# Altium schematic symbol library OBDII-components.SchLib: 55 symbols
Pins are listed as number, name and electrical type; pins without a type are passive.

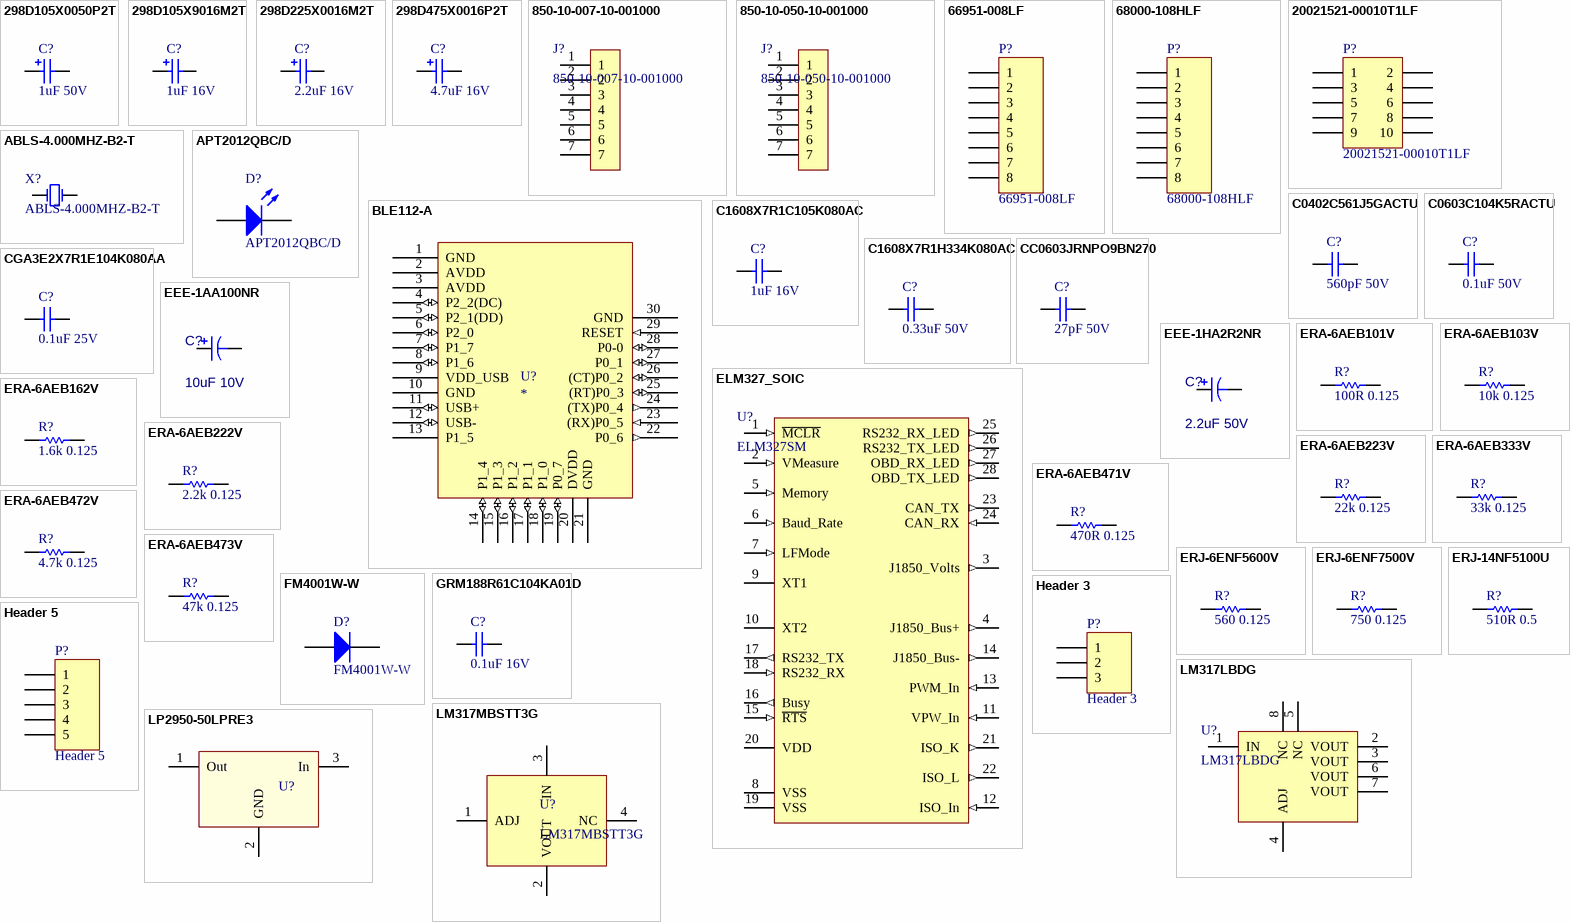
[diagram p0: symbols 298D105X0050P2T to LP2950-50LPRE3]

## 298D105X0050P2T
designator C?, comment 1uF 50V
Surface-Mount Electrolitic Tantalum Capacitor, 1uF, 20% Tolerance, 1005 Size, 50V; Type: Polarity; PackageReference: 1005; Publisher: Altium Limited; PackageDescription: Chip Capacitor; Site: http://www.vishay.com/doc?40065; Value: 1uF 50V
simulation model CAP (Semiconductor Capacitor)
signal-integrity model Cap Semi
footprint C1005 (Chip Capacitor, Body 1.6x0.8mm, IPC High Density)
pins: 1, 2

## 298D105X9016M2T
designator C?, comment 1uF 16V
Surface-Mount Electrolitic Tantalum Capacitor, 1uF, 10% Tolerance, 0603 Size, 16V; Type: Polarity; PackageReference: 0603; Publisher: Altium Limited; PackageDescription: Chip Capacitor; Site: http://www.vishay.com/doc?40065; Value: 1uF 16V
simulation model CAP (Semiconductor Capacitor)
signal-integrity model Cap Semi
footprint C0603 (Chip Capacitor, Body 1.6x0.8mm, IPC High Density)
pins: 1, 2

## 298D225X0016M2T
designator C?, comment 2.2uF 16V
Surface-Mount Electrolitic Tantalum Capacitor, 2.2uF, 10% Tolerance, 0603 Size, 16V; Type: Polarity; PackageReference: 0603; Publisher: Altium Limited; PackageDescription: Chip Capacitor; Site: http://www.vishay.com/doc?40065; Value: 2.2uF 16V
simulation model CAP (Semiconductor Capacitor)
signal-integrity model Cap Semi
footprint C0603 (Chip Capacitor, Body 1.6x0.8mm, IPC High Density)
pins: 1, 2

## 298D475X0016P2T
designator C?, comment 4.7uF 16V
Surface-Mount Electrolitic Tantalum Capacitor, 4.7uF, 20% Tolerance, 1005 Size, 16V; Type: Polarity; PackageReference: 1005; Publisher: Altium Limited; PackageDescription: Chip Capacitor; Site: http://www.vishay.com/doc?40065; Value: 4.7uF 16V
simulation model CAP (Semiconductor Capacitor)
signal-integrity model Cap Semi
footprint C1005 (Chip Capacitor, Body 1.6x0.8mm, IPC High Density)
pins: 1, 2

## 850-10-007-10-001000
designator J?
CONN HEADER .050" 7POS PCB GOLD; Manufacturer: Mill-Max; PartNumber: 850-10-007-10-001000; Type: 850-10-007-10-001000
footprint 850-10-050-10-001000 (CONN HEADER .050" 50POS PCB GOLD)
pins: 1, 2, 3, 4, 5, 6, 7

## 850-10-050-10-001000
designator J?
CONN HEADER .050" 50POS PCB GOLD; Manufacturer: Mill-Max; PartNumber: 850-10-050-10-001000
footprint 850-10-050-10-001000 (CONN HEADER .050" 50POS PCB GOLD)
pins: 1, 2, 3, 4, 5, 6, 7

## 66951-008LF
designator P?
Connector, 8-Pin, 2.54 pitch, 1 row; LatestRevisionDate: 17-Jul-2002; LatestRevisionNote: Re-released for DXP Platform.; Publisher: Altium Limited; Type: 66951-008LF
signal-integrity model Connector
footprint HDR1X8 (Connector; Header; 8 Position)
pins: 1, 2, 3, 4, 5, 6, 7, 8

## 68000-108HLF
designator P?
Header, 8-Pin, 2.54 pitch, 1 row; LatestRevisionDate: 17-Jul-2002; LatestRevisionNote: Re-released for DXP Platform.; Publisher: Altium Limited; Type: 68000-108HLF
signal-integrity model Connector
footprint HDR1X8 (Connector; Header; 8 Position)
pins: 1, 2, 3, 4, 5, 6, 7, 8

## 20021521-00010T1LF
designator P?
Header, 5-Pin, Dual row,SMT SHOULDED; LatestRevisionDate: 17-Jul-2002; LatestRevisionNote: Re-released for DXP Platform.; Publisher: Altium Limited; Type: 20021521-00010T1LF
signal-integrity model Connector
footprint 20021521-00010T1LF (Connector)
pins: 1, 2, 3, 4, 5, 6, 7, 8, 9, 10

## ABLS-4.000MHZ-B2-T
designator X?
CRYSTAL 4.000 MHZ 18PF SMD; Manufacturer: Abracon; Value: 4MHz; PartNumber: ABLS-4.000MHZ-B2-T; Site: http://www.abracon.com/Resonators/abls.pdf
footprint HC-49/US
pins: 1 OSC1, 2 OSC2

## APT2012QBC/D
designator D?
Typical BLUE SiC LED; LatestRevisionNote: PCB Footprint replaced.; PackageReference: 0805; PackageDescription: SM LED; Body 2.0x 1.25 x 0.75mm, inc leads (LxWxH typ); Type: APT2012QBC/D
footprint LED-0805 (LED, Body 2 x 1.25 mm)
pins: 1 A, 2 K

## BLE112-A
designator U?
BLE112 Bluetooth Smart Module; Site: http://www.bluegiga.com/en-US/products/bluetooth-4.0-modules/ble112-bluetooth--smart-module/; Type: BLE112-A
footprint BLE112-A - II (BLE112 Bluetooth Smart Module)
pins: 1 GND (power), 2 AVDD (power), 3 AVDD (power), 4 P2_2(DC) (io), 5 P2_1(DD) (io), 6 P2_0 (io), 7 P1_7 (io), 8 P1_6 (io), 9 VDD_USB (power), 10 GND, 11 USB+ (io), 12 USB- (io), 13 P1_5, 14 P1_4 (io), 15 P1_3 (io), 16 P1_2 (io), 17 P1_1 (io), 18 P1_0 (io), 19 P0_7 (io), 20 DVDD (power), 21 GND (power), 22 P0_6 (out), 23 (RX)P0_5 (in), 24 (TX)P0_4 (out), 25 (RT)P0_3 (io), 26 (CT)P0_2 (io), 27 P0_1 (io), 28 P0-0 (io), 29 RESET (in), 30 GND (power)

## C0402C561J5GACTU
designator C?, comment 560pF 50V
Surface-Mount Ceramic Multilayer Capacitor, 560pF, 5% Tolerance, 0402 Size, 50V; PackageReference: 0402; Publisher: Altium Limited; PackageDescription: Chip Capacitor; Site: http://www.kemet.com/kemet/web/homepage/kechome.nsf/vapubfiles/KEM_C1003_C0G_SMD.pdf/$file/KEM_C1003_C0G_SMD.pdf; Value: 560pF 50V
footprint C1206 (Chip Capacitor, Body 3.2x1.6mm, IPC High Density)
footprint 0402 (Chip Capacitor, Body 1.0x0.5mm, IPC High Density)
footprint C2512 (Chip Capacitor, Body 2.54x1.27mm, IPC High Density)
footprint 1608[0603] (Chip Capacitor, Body 1.6x0.8mm, IPC High Density)
footprint C1210 (Chip Capacitor, Body 3.2x2.5mm, IPC High Density)
simulation model CAP (Semiconductor Capacitor)
signal-integrity model Cap Semi
pins: 1, 2

## C0603C104K5RACTU
designator C?, comment 0.1uF 50V
Surface-Mount Ceramic Multilayer Capacitor, 0.1uF, 10% Tolerance, 0603 Size, 50V; PackageReference: 1608(0603); PackageDescription: Chip Capacitor; Site: http://www.kemet.com/kemet/web/homepage/kechome.nsf/vapubfiles/KEM_C1002_X7R_SMD.pdf/$file/KEM_C1002_X7R_SMD.pdf; Value: 0.1uF 50V
footprint C1206 (Chip Capacitor, Body 3.2x1.6mm, IPC High Density)
footprint 0402 (Chip Capacitor, Body 1.0x0.5mm, IPC High Density)
footprint C2512 (Chip Capacitor, Body 2.54x1.27mm, IPC High Density)
footprint 1608[0603] (Chip Capacitor, Body 1.6x0.8mm, IPC High Density)
footprint C1210 (Chip Capacitor, Body 3.2x2.5mm, IPC High Density)
simulation model CAP (Semiconductor Capacitor)
signal-integrity model Cap Semi
pins: 1, 2

## C1608X7R1C105K080AC
designator C?, comment 1uF 16V
Surface-Mount Ceramic Multilayer Capacitor, 1uF, X7R, 10% Tolerance, 0603 Size, 16V; PackageReference: 1608(0603); PackageDescription: Chip Capacitor; Site: http://www.kemet.com/kemet/web/homepage/kechome.nsf/vapubfiles/KEM_C1002_X7R_SMD.pdf/$file/KEM_C1002_X7R_SMD.pdf; Value: 1uF 16V
footprint C1206 (Chip Capacitor, Body 3.2x1.6mm, IPC High Density)
footprint 0402 (Chip Capacitor, Body 1.0x0.5mm, IPC High Density)
footprint C2512 (Chip Capacitor, Body 2.54x1.27mm, IPC High Density)
footprint 1608[0603] (Chip Capacitor, Body 1.6x0.8mm, IPC High Density)
footprint C1210 (Chip Capacitor, Body 3.2x2.5mm, IPC High Density)
simulation model CAP (Semiconductor Capacitor)
signal-integrity model Cap Semi
pins: 1, 2

## C1608X7R1H334K080AC
designator C?, comment 0.33uF 50V
Surface-Mount Ceramic Multilayer Capacitor, 0.33uF, 10% Tolerance, 0603 Size, 50V; PackageReference: 1608(0603); PackageDescription: Chip Capacitor; Site: http://product.tdk.com/capacitor/mlcc/en/documents/C1608X7R1H334K080AC.pdf; Value: 0.33uF 50V
footprint C1206 (Chip Capacitor, Body 3.2x1.6mm, IPC High Density)
footprint 0402 (Chip Capacitor, Body 1.0x0.5mm, IPC High Density)
footprint C2512 (Chip Capacitor, Body 2.54x1.27mm, IPC High Density)
footprint 1608[0603] (Chip Capacitor, Body 1.6x0.8mm, IPC High Density)
footprint C1210 (Chip Capacitor, Body 3.2x2.5mm, IPC High Density)
simulation model CAP (Semiconductor Capacitor)
signal-integrity model Cap Semi
pins: 1, 2

## CC0603JRNPO9BN270
designator C?, comment 27pF 50V
Surface-Mount Ceramic Multilayer Capacitor, 27pF, 5% Tolerance, 0603 Size, 50V; PackageReference: 1608(0603); Publisher: Altium Limited; PackageDescription: Chip Capacitor; Site: http://www.mouser.com/ds/2/447/UPY-GP_NP0_16V-to-50V_%288%29-217813.pdf; Value: 27pF 50V
footprint C1206 (Chip Capacitor, Body 3.2x1.6mm, IPC High Density)
footprint 0402 (Chip Capacitor, Body 1.0x0.5mm, IPC High Density)
footprint C2512 (Chip Capacitor, Body 2.54x1.27mm, IPC High Density)
footprint 1608[0603] (Chip Capacitor, Body 1.6x0.8mm, IPC High Density)
footprint C1210 (Chip Capacitor, Body 3.2x2.5mm, IPC High Density)
simulation model CAP (Semiconductor Capacitor)
signal-integrity model Cap Semi
pins: 1, 2

## CGA3E2X7R1E104K080AA
designator C?, comment 0.1uF 25V
Surface-Mount Ceramic Multilayer Capacitor, 0.1uF, X7R, 10% Tolerance, 0603 Size, 25V; PackageReference: 0603; Publisher: Altium Limited; PackageDescription: Chip Capacitor; Site: http://product.tdk.com/capacitor/mlcc/en/documents/mlccspec_automotive_general_midvoltage_en.pdf; Value: 0.1uF 25V
footprint 1608[0603] (Chip Capacitor, Body 1.6x0.8mm, IPC High Density)
simulation model CAP (Semiconductor Capacitor)
signal-integrity model Cap Semi
pins: 1, 2

## EEE-1AA100NR
designator C?, comment 10uF 10V
CAP ELECT 10UF SV 10V SMD; Manufacturer: Panasonic; PartNumber: EEE-1AA100NR; Tolerance: +/-20%; Value: 10uF 10V; Voltage: 10V
footprint Panasonic_B (Panasonic Ñ size code electrolytic capacitor)
pins: 1, 2

## EEE-1HA2R2NR
designator C?, comment 2.2uF 50V
CAP ELECT 2.2UF SV 50V SMD; Manufacturer: Panasonic; PartNumber: EEE-1HA2R2NR; Tolerance: +/-20%; Value: 2.2uF 50V; Voltage: 50V
footprint Panasonic_Ñ (Panasonic Ñ size code electrolytic capacitor)
pins: 1, 2

## ELM327_SOIC
designator U?, comment ELM327SM
OBDII Interpreter IC; Manufacturer: Elm Electronics; PartNumber: ELM327SM; Type: ELM327SM
footprint SOIC-28N (SOIC, 28-Leads, Body 18.1x7.6mm (max), Pitch 1.27mm, IPC Medium Density)
pins: 1 ~{MCLR} (in), 2 VMeasure (in), 3 J1850_Volts (out), 4 J1850_Bus+ (out), 5 Memory (in), 6 Baud_Rate (in), 7 LFMode (in), 8 VSS (power), 9 XT1, 10 XT2, 11 VPW_In (in), 12 ISO_In (in), 13 PWM_In (in), 14 J1850_Bus- (out), 15 ~{RTS} (in), 16 Busy (out), 17 RS232_TX (out), 18 RS232_RX (in), 19 VSS (power), 20 VDD (power), 21 ISO_K (out), 22 ISO_L (out), 23 CAN_TX (out), 24 CAN_RX (in), 25 RS232_RX_LED (out), 26 RS232_TX_LED (out), 27 OBD_RX_LED (out), 28 OBD_TX_LED (out)

## ERA-6AEB101V
designator R?, comment 100R 0.125
Rectangular Thick Film Chip Resistor, 100 Ohm, 0.1% Tolerance, 0805 Size, 0.125 W; Note: If flow soldering, adjust pad width of PCB Footprint to 0.7 - 0.8 times the width of the resistor.; LatestRevisionNote: Silkscreen size reduced.; PackageReference: ERA-0805; Code_IPC: 2012 [0805]; ComponentLink1Description: Manufacturer Link; ComponentLink1URL: http://industrial.panasonic.com/www-data/pdf/AOA0000/AOA0000CE26.pdf; Value: 100R 0.125
footprint ERA-0805 (Chip Resistor; Body 2 x 1.3 mm (LxW typ))
simulation model RESISTOR (Resistor)
signal-integrity model Res
pins: 1, 2

## ERA-6AEB103V
designator R?, comment 10k 0.125
Rectangular Thick Film Chip Resistor, 10 kOhm, 0.1% Tolerance, 0805 Size, 0.125 W; Note: If flow soldering, adjust pad width of PCB Footprint to 0.7 - 0.8 times the width of the resistor.; LatestRevisionNote: Silkscreen size reduced.; PackageReference: ERA-0805; Code_IPC: 2012 [0805]; ComponentLink1Description: Manufacturer Link; ComponentLink1URL: http://industrial.panasonic.com/www-data/pdf/AOA0000/AOA0000CE26.pdf; Value: 10k 0.125
footprint ERA-0805 (Chip Resistor; Body 2 x 1.3 mm (LxW typ))
simulation model RESISTOR (Resistor)
signal-integrity model Res
pins: 1, 2

## ERA-6AEB162V
designator R?, comment 1.6k 0.125
Rectangular Thick Film Chip Resistor, 1.6kOhm, 0.1% Tolerance, 0805 Size, 0.125 W; Note: If flow soldering, adjust pad width of PCB Footprint to 0.7 - 0.8 times the width of the resistor.; LatestRevisionNote: Silkscreen size reduced.; PackageReference: ERA-0805; Code_IPC: 2012 [0805]; ComponentLink1Description: Manufacturer Link; ComponentLink1URL: http://industrial.panasonic.com/www-data/pdf/AOA0000/AOA0000CE26.pdf; Value: 1.6k 0.125
footprint ERA-0805 (Chip Resistor; Body 2 x 1.3 mm (LxW typ))
simulation model RESISTOR (Resistor)
signal-integrity model Res
pins: 1, 2

## ERA-6AEB222V
designator R?, comment 2.2k 0.125
Rectangular Thick Film Chip Resistor, 2.2 kOhm, 0.1% Tolerance, 0805 Size, 0.125 W; Note: If flow soldering, adjust pad width of PCB Footprint to 0.7 - 0.8 times the width of the resistor.; LatestRevisionNote: Silkscreen size reduced.; PackageReference: ERA-0805; Code_IPC: 2012 [0805]; ComponentLink1Description: Manufacturer Link; ComponentLink1URL: http://industrial.panasonic.com/www-data/pdf/AOA0000/AOA0000CE26.pdf; Value: 2.2k 0.125
footprint ERA-0805 (Chip Resistor; Body 2 x 1.3 mm (LxW typ))
simulation model RESISTOR (Resistor)
signal-integrity model Res
pins: 1, 2

## ERA-6AEB223V
designator R?, comment 22k 0.125
Rectangular Thick Film Chip Resistor, 22 kOhm, 0.1% Tolerance, 0805 Size, 0.125 W; Note: If flow soldering, adjust pad width of PCB Footprint to 0.7 - 0.8 times the width of the resistor.; LatestRevisionNote: Silkscreen size reduced.; PackageReference: ERA-0805; Code_IPC: 2012 [0805]; ComponentLink1Description: Manufacturer Link; ComponentLink1URL: http://industrial.panasonic.com/www-data/pdf/AOA0000/AOA0000CE26.pdf; Value: 22k 0.125
footprint ERA-0805 (Chip Resistor; Body 2 x 1.3 mm (LxW typ))
simulation model RESISTOR (Resistor)
signal-integrity model Res
pins: 1, 2

## ERA-6AEB333V
designator R?, comment 33k 0.125
Rectangular Thick Film Chip Resistor, 33 kOhm, 0.1% Tolerance, 0805 Size, 0.125 W; Note: If flow soldering, adjust pad width of PCB Footprint to 0.7 - 0.8 times the width of the resistor.; LatestRevisionNote: Silkscreen size reduced.; PackageReference: ERA-0805; Code_IPC: 2012 [0805]; ComponentLink1Description: Manufacturer Link; ComponentLink1URL: http://industrial.panasonic.com/www-data/pdf/AOA0000/AOA0000CE26.pdf; Value: 33k 0.125
footprint ERA-0805 (Chip Resistor; Body 2 x 1.3 mm (LxW typ))
simulation model RESISTOR (Resistor)
signal-integrity model Res
pins: 1, 2

## ERA-6AEB471V
designator R?, comment 470R 0.125
Rectangular Thick Film Chip Resistor, 470 Ohm, 0.1% Tolerance, 0805 Size, 0.125 W; Note: If flow soldering, adjust pad width of PCB Footprint to 0.7 - 0.8 times the width of the resistor.; LatestRevisionNote: Silkscreen size reduced.; PackageReference: ERA-0805; Code_IPC: 2012 [0805]; ComponentLink1Description: Manufacturer Link; ComponentLink1URL: http://industrial.panasonic.com/www-data/pdf/AOA0000/AOA0000CE26.pdf; Value: 470R 0.125
footprint ERA-0805 (Chip Resistor; Body 2 x 1.3 mm (LxW typ))
simulation model RESISTOR (Resistor)
signal-integrity model Res
pins: 1, 2

## ERA-6AEB472V
designator R?, comment 4.7k 0.125
Rectangular Thick Film Chip Resistor, 4.7 kOhm, 0.1% Tolerance, 0805 Size, 0.125 W; Note: If flow soldering, adjust pad width of PCB Footprint to 0.7 - 0.8 times the width of the resistor.; LatestRevisionNote: Silkscreen size reduced.; PackageReference: ERA-0805; Code_IPC: 2012 [0805]; ComponentLink1Description: Manufacturer Link; ComponentLink1URL: http://industrial.panasonic.com/www-data/pdf/AOA0000/AOA0000CE26.pdf; Value: 4.7k 0.125
footprint ERA-0805 (Chip Resistor; Body 2 x 1.3 mm (LxW typ))
simulation model RESISTOR (Resistor)
signal-integrity model Res
pins: 1, 2

## ERA-6AEB473V
designator R?, comment 47k 0.125
Rectangular Thick Film Chip Resistor, 47 kOhm, 0.1% Tolerance, 0805 Size, 0.125 W; Note: If flow soldering, adjust pad width of PCB Footprint to 0.7 - 0.8 times the width of the resistor.; LatestRevisionNote: Silkscreen size reduced.; PackageReference: ERA-0805; Code_IPC: 2012 [0805]; ComponentLink1Description: Manufacturer Link; ComponentLink1URL: http://industrial.panasonic.com/www-data/pdf/AOA0000/AOA0000CE26.pdf; Value: 47k 0.125
footprint ERA-0805 (Chip Resistor; Body 2 x 1.3 mm (LxW typ))
simulation model RESISTOR (Resistor)
signal-integrity model Res
pins: 1, 2

## ERJ-6ENF5600V
designator R?, comment 560 0.125
Rectangular Thick Film Chip Resistor, 560 Ohm, 1% Tolerance, 0805 Size, 0.125 W; Note: If flow soldering, adjust pad width of PCB Footprint to 0.7 - 0.8 times the width of the resistor.; LatestRevisionNote: Silkscreen size reduced.; PackageReference: ERA-0805; Code_IPC: 2012 [0805]; ComponentLink1Description: Manufacturer Link; ComponentLink1URL: http://industrial.panasonic.com/www-data/pdf/AOA0000/AOA0000CE26.pdf; Value: 560 0.125
footprint ERA-0805 (Chip Resistor; Body 2 x 1.3 mm (LxW typ))
simulation model RESISTOR (Resistor)
signal-integrity model Res
pins: 1, 2

## ERJ-6ENF7500V
designator R?, comment 750 0.125
Rectangular Thick Film Chip Resistor, 750 Ohm, 1% Tolerance, 0805 Size, 0.125 W; Note: If flow soldering, adjust pad width of PCB Footprint to 0.7 - 0.8 times the width of the resistor.; LatestRevisionNote: Silkscreen size reduced.; PackageReference: ERA-0805; Code_IPC: 2012 [0805]; ComponentLink1Description: Manufacturer Link; ComponentLink1URL: http://industrial.panasonic.com/www-data/pdf/AOA0000/AOA0000CE26.pdf; Value: 750 0.125
footprint ERA-0805 (Chip Resistor; Body 2 x 1.3 mm (LxW typ))
simulation model RESISTOR (Resistor)
signal-integrity model Res
pins: 1, 2

## ERJ-14NF5100U
designator R?, comment 510R 0.5
Rectangular Thick Film Chip Resistor, 510 Ohm, 1% Tolerance, 1210 Size, 0.5 W; Note: If flow soldering, adjust pad width of PCB Footprint to 0.7 - 0.8 times the width of the resistor.; LatestRevisionNote: Silkscreen size reduced.; PackageReference: ERA-1210; Code_IPC: 2012 [1210]; ComponentLink1Description: Manufacturer Link; ComponentLink1URL: http://industrial.panasonic.com/www-data/pdf/AOA0000/AOA0000CE26.pdf; Value: 510R 0.5
simulation model RESISTOR (Resistor)
signal-integrity model Res
footprint ERJ-1210 (Chip Resistor; Body 3.2 x 2.5 mm (LxW typ))
pins: 1, 2

## FM4001W-W
designator D?
1 Amp 50V  Rectifier; PackageReference: DO214AC(SMA); ComponentLink1Description: Datasheet; ComponentLink1URL: http://lib.chipdip.ru/758/DOC000758182.pdf; Type: FM4001W-W
footprint SMA,2.8mm (DO-214AC/SMA)
pins: 1 A, 2 K

## GRM188R61C104KA01D
designator C?, comment 0.1uF 16V
Surface-Mount Ceramic Multilayer Capacitor, 0.1uF, X5R, 10% Tolerance, 0603 Size, 16V; PackageReference: 0603; Publisher: Altium Limited; PackageDescription: Chip Capacitor; Site: http://product.tdk.com/capacitor/mlcc/en/documents/mlccspec_automotive_general_midvoltage_en.pdf; Value: 0.1uF 16V
footprint 1608[0603] (Chip Capacitor, Body 1.6x0.8mm, IPC High Density)
simulation model CAP (Semiconductor Capacitor)
signal-integrity model Cap Semi
pins: 1, 2

## Header 3
designator P?
Header, 3-Pin; LatestRevisionDate: 17-Jul-2002; LatestRevisionNote: Re-released for DXP Platform.; Publisher: Altium Limited; Type: Header 1X3 2.54 pintch
footprint HDR1X3 (Connector; Header; 3 Position)
signal-integrity model Connector
pins: 1, 2, 3

## Header 5
designator P?
Header, 5-Pin; LatestRevisionDate: 17-Jul-2002; LatestRevisionNote: Re-released for DXP Platform.; Publisher: Altium Limited; Type: Header 1X5 2.54 pintch
footprint HDR1X5 (Connector; Header; 5 Position)
signal-integrity model Connector
pins: 1, 2, 3, 4, 5

## LM317LBDG
designator U?
3-terminal adjustable regulator   1.2V-37V 0.1A SOIC8; Manufacturer: National Semiconductor; Approved: Yes by Implementation; TargetLibrary: Power IC; PartNumber: LM317LBDG; Publisher: Vanteon; Published: 8/3/2009; ComponentLink1Description: Datasheet; ComponentLink1URL: http://www.onsemi.com/pub/Collateral/LM317L-D.PDF; LeadFree: Yes; RoHS: Yes; Status: Active; Supplier 1: Digi-Key; Supplier Part Number 1: LM317LM-ND; Type: LM317LBDG
footprint SOIC8N (SOIC, 8-Leads, Body 5.0x4.0mm (max), Pitch 1.27mm, IPC Medium Density)
pins: 1 IN (power), 2 VOUT, 3 VOUT, 4 ADJ (power), 5 NC, 6 VOUT, 7 VOUT, 8 NC

## LM317MBSTT3G
designator U?
3-terminal adjustable regulator   1.2V-37V 0.5A SOT223; Manufacturer: ON Semiconductor; Approved: Yes by Implementation; TargetLibrary: Power IC; PartNumber: LM317MBSTT3G; ComponentLink1Description: Datasheet; ComponentLink1URL: http://www.onsemi.com/pub/Collateral/LM317M-D.PDF; LeadFree: Yes; RoHS: Yes; Status: Active; Supplier 1: Digi-Key; Type: LM317MBSTT3G
footprint SOT223_L (SOT223, 4-Leads, Body 6.5x3.5mm, Pitch 2.3mm, Lead Span 7mm, IPC High Density)
pins: 1 ADJ (power), 2 VOUT, 3 IN (power), 4 NC

## LP2950-50LPRE3
designator U?
Adjustable Micropower Voltage Regulator With Shutdown; 5V; 100 mA; PackageReference: TO-92; ComponentLink1Description: Datasheet; ComponentLink1URL: http://www.ti.com/lit/ds/slvs582h/slvs582h.pdf; Type: LP2950-50LPRE3
footprint TO-92 (TO, Flat Index; 3 In-Line, Axial Leads; Body Dia. 4.5mm; Leads 0.51 x 0.48 mm (max))
pins: 1 Out (power), 2 GND (power), 3 In (power)

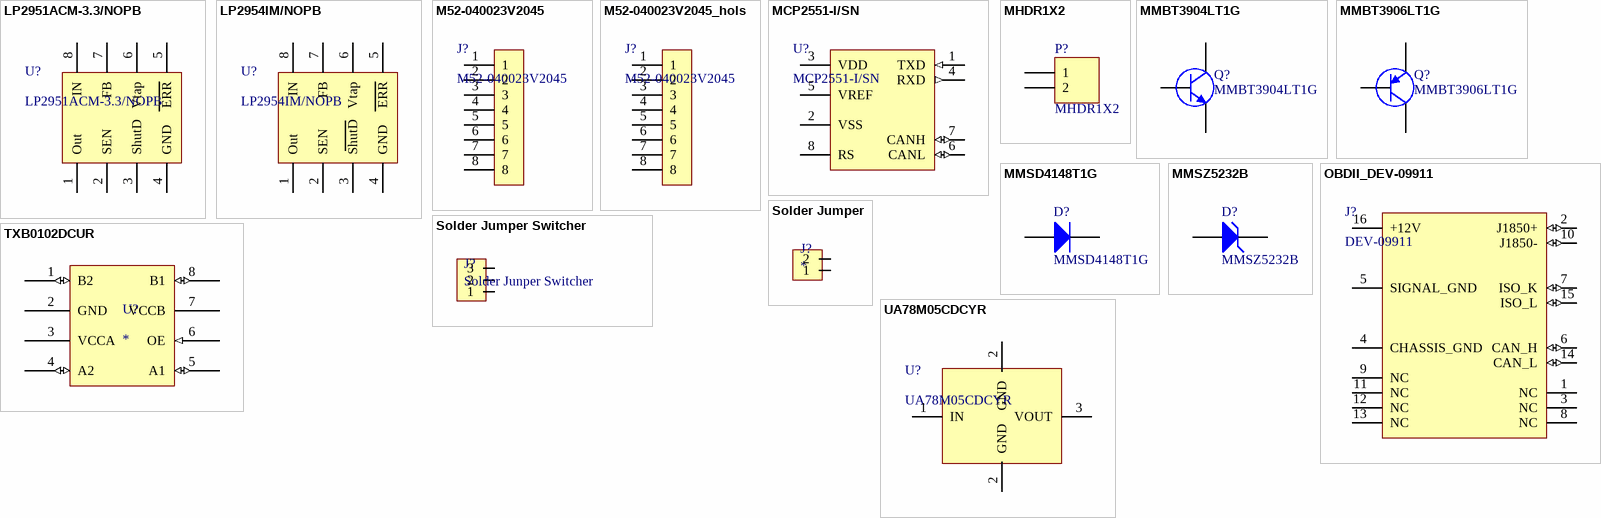
[diagram p1: symbols LP2951ACM-3.3/NOPB to UA78M05CDCYR]

## LP2951ACM-3.3/NOPB
designator U?
LDO Voltage Regulators  1.2V-37V 0.1A SOIC8; Manufacturer: Texas Instruments; Approved: Yes by Implementation; TargetLibrary: Power IC; PartNumber: LP2951ACM-3.3/NOPB; ComponentLink1Description: Datasheet; ComponentLink1URL: http://www.ti.com/general/docs/lit/getliterature.tsp?literatureNumber=snvs764n; LeadFree: Yes; RoHS: Yes; Status: Active; Supplier 1: Digi-Key; Supplier Part Number 1: LP2951ACM-3.3/NOPB; Type: LP2951ACM-3.3/NOPB
footprint SOIC8N (SOIC, 8-Leads, Body 5.0x4.0mm (max), Pitch 1.27mm, IPC Medium Density)
pins: 1 Out (power), 2 SEN, 3 ShutD, 4 GND (power), 5 ERR, 6 Vtap, 7 FB, 8 IN

## LP2954IM/NOPB
designator U?
LDO Voltage Regulators  1.2V-29V 0.25A SOIC8; Manufacturer: Texas Instruments; Approved: Yes by Implementation; TargetLibrary: Power IC; PartNumber: LP2954IM/NOPB; ComponentLink1Description: Datasheet; ComponentLink1URL: http://www.ti.com/general/docs/lit/getliterature.tsp?literatureNumber=snvs764n; LeadFree: Yes; RoHS: Yes; Status: Active; Supplier 1: Digi-Key; Supplier Part Number 1: LP2954IM/NOPB; Type: LP2954IM/NOPB
footprint SOIC8N (SOIC, 8-Leads, Body 5.0x4.0mm (max), Pitch 1.27mm, IPC Medium Density)
pins: 1 Out (power), 2 SEN, 3 ShutD, 4 GND (power), 5 ERR, 6 Vtap, 7 FB, 8 IN

## M52-040023V2045
designator J?
CONN HEADER .050" 20POS PCB GOLD; Manufacturer: Harwin; PartNumber: M52-040023V2045; Type: M52-040023V2045
footprint M52-040023V2045 (CONN HEADER .050" 50POS PCB GOLD)
pins: 1, 2, 3, 4, 5, 6, 7, 8

## M52-040023V2045_hols
designator J?, comment M52-040023V2045
CONN HEADER .050" 8POS PCB GOLD; Manufacturer: Harwin; PartNumber: M52-040023V2045; Type: M52-040023V2045_hols
footprint M52-040023V2045_hols (CONN HEADER .050" 50POS PCB GOLD)
pins: 1, 2, 3, 4, 5, 6, 7, 8

## MCP2551-I/SN
designator U?
IC TRANSCEIVER CAN HI-SPD 8-SOIC; Manufacturer: Microchip Technology; PartNumber: MCP2551-I/SN; Type: MCP2551-1/SN
footprint SOIC8N (SOIC, 8-Leads, Body 5.0x4.0mm (max), Pitch 1.27mm, IPC Medium Density)
pins: 1 TXD (in), 2 VSS (power), 3 VDD (power), 4 RXD (out), 5 VREF, 6 CANL (io), 7 CANH (io), 8 RS

## MHDR1X2
designator P?
Header, 2-Pin; LatestRevisionDate: 17-Jul-2002; LatestRevisionNote: Re-released for DXP Platform.; Publisher: Altium Limited; Type: Header 1X2 1.27 pintch
footprint MHDR1X2 (Connector; Header; 2 Position)
signal-integrity model Connector
pins: 1, 2

## MMBT3904LT1G
designator Q?
NPN 3904 General Purpose Amplifier; Manufacturer: ON Semiconductor; Value: 0.2A, 40V; Approved: Yes by Implemenation; TargetLibrary: Transistors; Published: 8/13/2009; Publisher: Vanteon; LeadFree: Yes; RoHS: Yes; PartNumber: MMBT3904LT1G; ComponentLink1Description: Datasheet; ComponentLink1URL: http://www.onsemi.com/pub_link/Collateral/MMBT3904LT1-D.PDF; Status: Active; Supplier 1: Digi-Key; Supplier Part Number 1: MMBT3904LT1GOSCT-ND
footprint SOT23 (SOT23, 3-Leads, Body 3.0x2.6mm, Pitch 0.95mm)
pins: 1 B, 2 E, 3 C
1 alternate drawing of the same symbol

## MMBT3906LT1G
designator Q?
PNP 3906 General Purpose Amplifier; Manufacturer: ON Semiconductor; Value: 0.2A, -40V; Approved: Yes by Implemenation; TargetLibrary: Transistors; Published: 8/13/2009; Publisher: Vanteon; LeadFree: Yes; RoHS: Yes; PartNumber: MMBT3906LT1G; ComponentLink1Description: Datasheet; ComponentLink1URL: http://www.onsemi.com/pub_link/Collateral/MMBT3906LT1-D.PDF; Status: Active; Supplier 1: Digi-Key; Supplier Part Number 1: MMBT3906LT1GOSCT-ND
footprint SOT23 (SOT23, 3-Leads, Body 3.0x2.6mm, Pitch 0.95mm)
pins: 1 B, 2 E, 3 C
1 alternate drawing of the same symbol

## MMSD4148T1G
designator D?
High Conductance Fast Diode; Manufacturer: OnSemi; Approved: M. Jablonski; TargetLibrary: Diodes; Current: 200 mA; Published: 6/4/2009; Publisher: Vanteon; LeadFree: Yes; RoHS: Yes; PartNumber: MMSD4148T1G; ComponentLink1Description: Datasheet; ComponentLink1URL: http://www.onsemi.com/pub_link/Collateral/MMSD4148T1-D.PDF; Status: Active; Supplier 1: Digi-Key; Supplier Part Number 1: MMSD4148T1GOSCT-ND; Type: MMSD4148T1G
footprint SOD123 (Diode SOD123, Gull-wing)
pins: 1 A, 2 C

## MMSZ5232B
designator D?
Zener Diodes 5.6 Volt 0.5W 5%; PackageReference: SOD-123; PackageDescription: Diode, Thru-Hole; 2 Leads; 0.7 in Pin Spacing; Type: MMSZ5232B
footprint SOD123 (Diode SOD123, Gull-wing)
pins: 1 A, 2 K

## OBDII_DEV-09911
designator J?, comment DEV-09911
OBD-II Connector; Manufacturer: SparkFun Electronics; PartNumber: DEV-09911; Type: DEV-09911
footprint DEV-09911 - II (OBD-II Connector)
pins: 1 NC, 2 J1850+ (io), 3 NC, 4 CHASSIS_GND (power), 5 SIGNAL_GND (power), 6 CAN_H (io), 7 ISO_K (io), 8 NC, 9 NC, 10 J1850- (io), 11 NC, 12 NC, 13 NC, 14 CAN_L (io), 15 ISO_L (io), 16 +12V (power)

## Solder Jumper
designator J?
Solder Jumper; Type: Solder Junper
footprint Solder Jumper
pins: 1, 2

## Solder Jumper Switcher
designator J?, comment Solder Junper Switcher
Solder Jumper Switcher; Type: Solder Junper Switcher
footprint Solder Jumper Switcher (Solder Jumper)
pins: 1, 2, 3

## TXB0102DCUR
designator U?
2-Bit Bidirectional Voltage-Level Translator with Auto Direction Sensing and +/-15-kV ESD Protect; Site: http://www.ti.com/lit/gpn/txb0102; Type: TXB0102DCUR
footprint TXB0102DCUR (2-Bit Bidirectional Voltage-Level Translator with Auto Direction Sensing and +/-15-kV ESD Protect)
pins: 1 B2 (io), 2 GND (power), 3 VCCA (power), 4 A2 (io), 5 A1 (io), 6 OE (in), 7 VCCB (power), 8 B1 (io)

## UA78M05CDCYR
designator U?
3-terminal regulator 5V in SOT-223; Manufacturer: Texas Instruments; Approved: Yes by Implementation; TargetLibrary: Power IC; PartNumber: UA78M05CDCYR; ComponentLink1Description: Datasheet; ComponentLink1URL: http://www.ti.com/litv/slvs059s; LeadFree: Yes; RoHS: Yes; Status: Active; Supplier 1: Digi-Key; Type: UA78M05CDCYR
footprint SOT223_L (SOT223, 4-Leads, Body 6.5x3.5mm, Pitch 2.3mm, Lead Span 7mm, IPC High Density)
pins: 1 IN (power), 2 GND (power), 2 GND, 3 VOUT